# Altium integrated library 796867-8.IntLib: 2 symbols
Pins are listed as number, name and electrical type; pins without a type are passive.

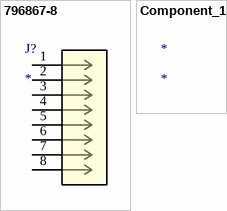
[diagram p0: symbols 796867-8 to Component_1]

## 796867-8
designator J?
No Description Available; Mfr_Name: TE Connectivity; TYPE: Header; RefDes: RefDes
footprint CONN8_796867-8_TEC
pins: 1, 2, 3, 4, 5, 6, 7, 8

## Component_1
designator *